# Altium footprint library USB3.0 Type B Horizontal.PcbLib: 1 footprints
Each footprint in its own frame and in the unit in brackets; x right, y up, seen from the top. Pads: shape width x height; smd on the part's side, far side on the other; paste and mask are expansions set on the pad; w line width, h text height; cw(c..) or ccw(c..) is an arc to the next point about the centre after c.
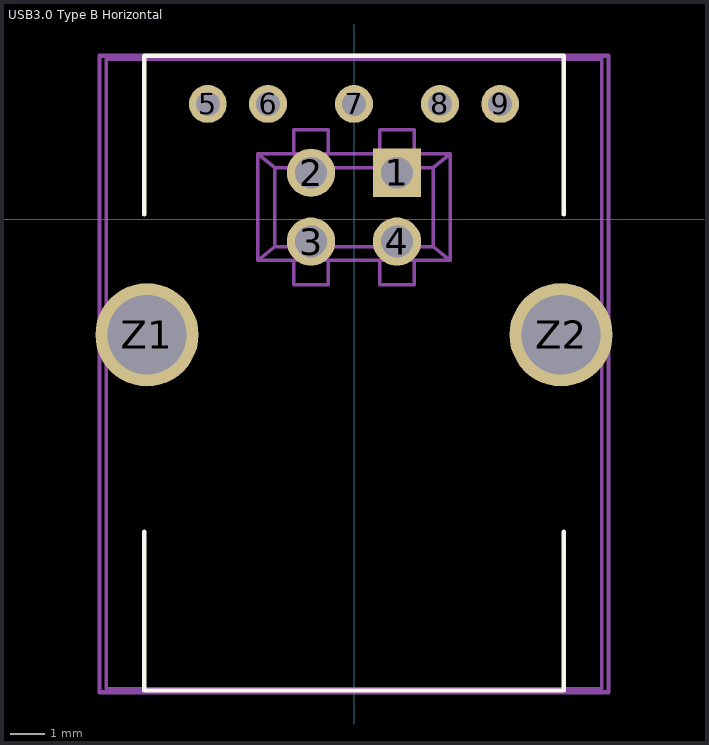
[diagram p0: the footprint, top view; thin cyan lines are the x and y axes]

## USB3.0 Type B Horizontal [mm] "USB3.0 Type B Horizontal 692221030100"
height 3.9
pads (11):
  rect 1.4x1.4 hole 0.92: 1(1.25,1.355)
  round 1.4 hole 0.92: 2(-1.25,1.355) 3(-1.25,-0.645) 4(1.25,-0.645)
  round 1.1 hole 0.7: 5(-4.25,3.355) 6(-2.5,3.355) 7(0,3.355) 8(2.5,3.355) 9(4.25,3.355)
  round 3 hole 2.3: Z1(-6.02,-3.355) Z2(6.02,-3.355)
Top Overlay:
  lines w0.127: -6.1,-9.082 -6.1,-13.695 6.1,-13.695 6.1,-9.082 ; -6.1,0.143 -6.1,4.755 6.1,4.755 6.1,0.143
Mechanical 13:
  lines w0.1: -7.2,-13.645 -7.2,4.655 7.2,4.655 7.2,-13.645 -7.2,-13.645
  lines w0.102: -1.75,-1.195 -1.75,-1.895 -0.75,-1.895 -0.75,-1.195 ; -1.75,1.905 -1.75,2.605 -0.75,2.605 -0.75,1.905 ; 0.75,-1.195 0.75,-1.895 1.75,-1.895 1.75,-1.195 ; 0.75,1.905 0.75,2.605 1.75,2.605 1.75,1.905 ; -2.8,-1.195 -2.3,-0.795 ; -2.8,-1.195 -2.8,1.905 ; -2.8,-1.195 2.8,-1.195 ; -2.8,1.905 -2.3,1.505 ; -2.8,1.905 2.8,1.905 ; -2.3,-0.795 -2.3,1.505 ; -2.3,-0.795 2.3,-0.795 ; -2.3,1.505 2.3,1.505 ; 2.3,-0.795 2.8,-1.195 ; 2.3,-0.795 2.3,1.505 ; 2.3,1.505 2.8,1.905 ; 2.8,-1.195 2.8,1.905
Mechanical 15:
  lines w0.127: -7.398,-13.745 -7.398,4.755 7.4,4.755 7.4,-13.745 -7.398,-13.745
3D body: height 12.95, standoff -3.18, extent -7.2,-13.645 7.2,4.655